# EAGLE library part FDC_26 (library fdc_26)
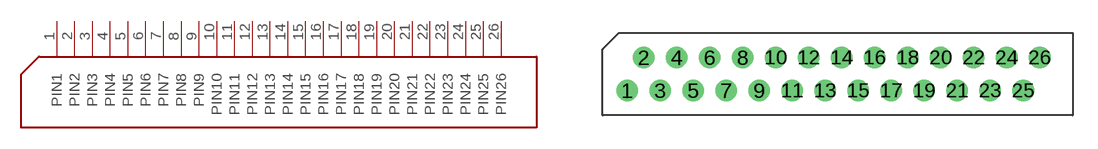
[diagram p0: symbol with the pads of FDC26; footprint FDC26]

Designator prefix -

## FDC_26  [FDC26]
1  PIN1
2  PIN2
3  PIN3
4  PIN4
5  PIN5
6  PIN6
7  PIN7
8  PIN8
9  PIN9
10  PIN10
11  PIN11
12  PIN12
13  PIN13
14  PIN14
15  PIN15
16  PIN16
17  PIN17
18  PIN18
19  PIN19
20  PIN20
21  PIN21
22  PIN22
23  PIN23
24  PIN24
25  PIN25
26  PIN26

## Footprint FDC26 (pad centres in mm)
drill 0.8: 1 1.5,1.5; 2 2.5,3.5; 3 3.5,1.5; 4 4.5,3.5; 5 5.5,1.5; 6 6.5,3.5; 7 7.5,1.5; 8 8.5,3.5; 9 9.5,1.5; 10 10.5,3.5; 11 11.5,1.5; 12 12.5,3.5; 13 13.5,1.5; 14 14.5,3.5; 15 15.5,1.5; 16 16.5,3.5; 17 17.5,1.5; 18 18.5,3.5; 19 19.5,1.5; 20 20.5,3.5; 21 21.5,1.5; 22 22.5,3.5; 23 23.5,1.5; 24 24.5,3.5; 25 25.5,1.5; 26 26.5,3.5